# EAGLE library part DDR3-RAM (library debauer_ddr)
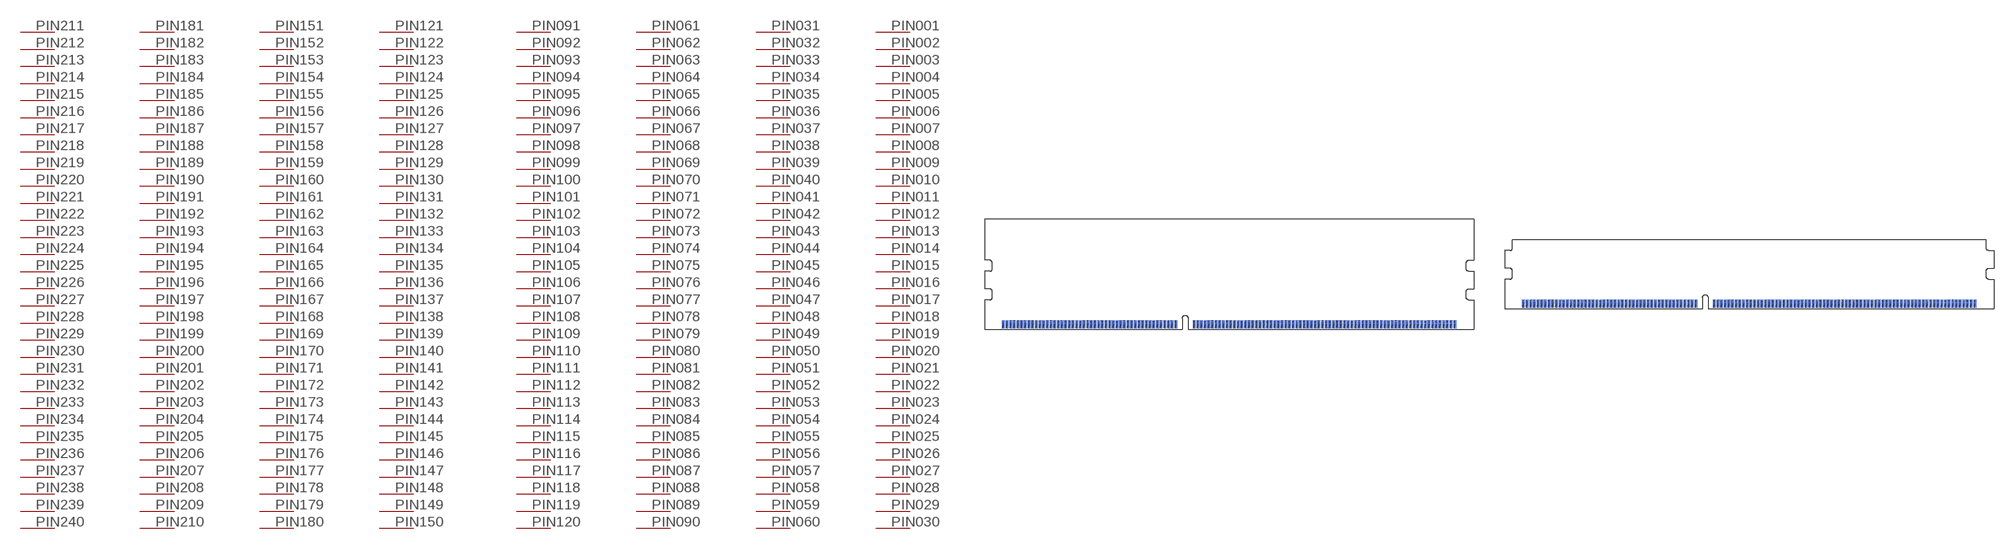
[diagram p4: symbol with the pads of 240PIN-SDRAM3-ABC; footprints 240PIN-SDRAM3-ABC, 240PIN-SDRAM3-DEF]

Designator prefix -; gates G$1=120PIN G$2=120PIN

## DDR3-RAMACB  [240PIN-SDRAM3-ABC]
PIN001  G$1:P$1
PIN002  G$1:P$2
PIN003  G$1:P$3
PIN004  G$1:P$4
PIN005  G$1:P$5
PIN006  G$1:P$6
PIN007  G$1:P$7
PIN008  G$1:P$8
PIN009  G$1:P$9
PIN010  G$1:P$10
PIN011  G$1:P$11
PIN012  G$1:P$12
PIN013  G$1:P$13
PIN014  G$1:P$14
PIN015  G$1:P$15
PIN016  G$1:P$16
PIN017  G$1:P$17
PIN018  G$1:P$18
PIN019  G$1:P$19
PIN020  G$1:P$20
PIN021  G$1:P$21
PIN022  G$1:P$22
PIN023  G$1:P$23
PIN024  G$1:P$24
PIN025  G$1:P$25
PIN026  G$1:P$26
PIN027  G$1:P$27
PIN028  G$1:P$28
PIN029  G$1:P$29
PIN030  G$1:P$30
PIN031  G$1:P$31
PIN032  G$1:P$32
PIN033  G$1:P$33
PIN034  G$1:P$34
PIN035  G$1:P$35
PIN036  G$1:P$36
PIN037  G$1:P$37
PIN038  G$1:P$38
PIN039  G$1:P$39
PIN040  G$1:P$40
PIN041  G$1:P$41
PIN042  G$1:P$42
PIN043  G$1:P$43
PIN044  G$1:P$44
PIN045  G$1:P$45
PIN046  G$1:P$46
PIN047  G$1:P$47
PIN048  G$1:P$48
PIN049  G$1:P$49
PIN050  G$1:P$50
PIN051  G$1:P$51
PIN052  G$1:P$52
PIN053  G$1:P$53
PIN054  G$1:P$54
PIN055  G$1:P$55
PIN056  G$1:P$56
PIN057  G$1:P$57
PIN058  G$1:P$58
PIN059  G$1:P$59
PIN060  G$1:P$60
PIN061  G$1:P$61
PIN062  G$1:P$62
PIN063  G$1:P$63
PIN064  G$1:P$64
PIN065  G$1:P$65
PIN066  G$1:P$66
PIN067  G$1:P$67
PIN068  G$1:P$68
PIN069  G$1:P$69
PIN070  G$1:P$70
PIN071  G$1:P$71
PIN072  G$1:P$72
PIN073  G$1:P$73
PIN074  G$1:P$74
PIN075  G$1:P$75
PIN076  G$1:P$76
PIN077  G$1:P$77
PIN078  G$1:P$78
PIN079  G$1:P$79
PIN080  G$1:P$80
PIN081  G$1:P$81
PIN082  G$1:P$82
PIN083  G$1:P$83
PIN084  G$1:P$84
PIN085  G$1:P$85
PIN086  G$1:P$86
PIN087  G$1:P$87
PIN088  G$1:P$88
PIN089  G$1:P$89
PIN090  G$1:P$90
PIN091  G$1:P$91
PIN092  G$1:P$92
PIN093  G$1:P$93
PIN094  G$1:P$94
PIN095  G$1:P$95
PIN096  G$1:P$96
PIN097  G$1:P$97
PIN098  G$1:P$98
PIN099  G$1:P$99
PIN100  G$1:P$100
PIN101  G$1:P$101
PIN102  G$1:P$102
PIN103  G$1:P$103
PIN104  G$1:P$104
PIN105  G$1:P$105
PIN106  G$1:P$106
PIN107  G$1:P$107
PIN108  G$1:P$108
PIN109  G$1:P$109
PIN110  G$1:P$110
PIN111  G$1:P$111
PIN112  G$1:P$112
PIN113  G$1:P$113
PIN114  G$1:P$114
PIN115  G$1:P$115
PIN116  G$1:P$116
PIN117  G$1:P$117
PIN118  G$1:P$118
PIN119  G$1:P$119
PIN120  G$1:P$120
PIN121  G$2:P$1
PIN122  G$2:P$2
PIN123  G$2:P$3
PIN124  G$2:P$4
PIN125  G$2:P$5
PIN126  G$2:P$6
PIN127  G$2:P$7
PIN128  G$2:P$8
PIN129  G$2:P$9
PIN130  G$2:P$10
PIN131  G$2:P$11
PIN132  G$2:P$12
PIN133  G$2:P$13
PIN134  G$2:P$14
PIN135  G$2:P$15
PIN136  G$2:P$16
PIN137  G$2:P$17
PIN138  G$2:P$18
PIN139  G$2:P$19
PIN140  G$2:P$20
PIN141  G$2:P$21
PIN142  G$2:P$22
PIN143  G$2:P$23
PIN144  G$2:P$24
PIN145  G$2:P$25
PIN146  G$2:P$26
PIN147  G$2:P$27
PIN148  G$2:P$28
PIN149  G$2:P$29
PIN150  G$2:P$30
PIN151  G$2:P$31
PIN152  G$2:P$32
PIN153  G$2:P$33
PIN154  G$2:P$34
PIN155  G$2:P$35
PIN156  G$2:P$36
PIN157  G$2:P$37
PIN158  G$2:P$38
PIN159  G$2:P$39
PIN160  G$2:P$40
PIN161  G$2:P$41
PIN162  G$2:P$42
PIN163  G$2:P$43
PIN164  G$2:P$44
PIN165  G$2:P$45
PIN166  G$2:P$46
PIN167  G$2:P$47
PIN168  G$2:P$48
PIN169  G$2:P$49
PIN170  G$2:P$50
PIN171  G$2:P$51
PIN172  G$2:P$52
PIN173  G$2:P$53
PIN174  G$2:P$54
PIN175  G$2:P$55
PIN176  G$2:P$56
PIN177  G$2:P$57
PIN178  G$2:P$58
PIN179  G$2:P$59
PIN180  G$2:P$60
PIN181  G$2:P$61
PIN182  G$2:P$62
PIN183  G$2:P$63
PIN184  G$2:P$64
PIN185  G$2:P$65
PIN186  G$2:P$66
PIN187  G$2:P$67
PIN188  G$2:P$68
PIN189  G$2:P$69
PIN190  G$2:P$70
PIN191  G$2:P$71
PIN192  G$2:P$72
PIN193  G$2:P$73
PIN194  G$2:P$74
PIN195  G$2:P$75
PIN196  G$2:P$76
PIN197  G$2:P$77
PIN198  G$2:P$78
PIN199  G$2:P$79
PIN200  G$2:P$80
PIN201  G$2:P$81
PIN202  G$2:P$82
PIN203  G$2:P$83
PIN204  G$2:P$84
PIN205  G$2:P$85
PIN206  G$2:P$86
PIN207  G$2:P$87
PIN208  G$2:P$88
PIN209  G$2:P$89
PIN210  G$2:P$90
PIN211  G$2:P$91
PIN212  G$2:P$92
PIN213  G$2:P$93
PIN214  G$2:P$94
PIN215  G$2:P$95
PIN216  G$2:P$96
PIN217  G$2:P$97
PIN218  G$2:P$98
PIN219  G$2:P$99
PIN220  G$2:P$100
PIN221  G$2:P$101
PIN222  G$2:P$102
PIN223  G$2:P$103
PIN224  G$2:P$104
PIN225  G$2:P$105
PIN226  G$2:P$106
PIN227  G$2:P$107
PIN228  G$2:P$108
PIN229  G$2:P$109
PIN230  G$2:P$110
PIN231  G$2:P$111
PIN232  G$2:P$112
PIN233  G$2:P$113
PIN234  G$2:P$114
PIN235  G$2:P$115
PIN236  G$2:P$116
PIN237  G$2:P$117
PIN238  G$2:P$118
PIN239  G$2:P$119
PIN240  G$2:P$120

## DDR3-RAMDEF  [240PIN-SDRAM3-DEF]
Pads as for 240PIN-SDRAM3-ABC

## Footprint 240PIN-SDRAM3-ABC (pad centres in mm)
DDR3 SDRAM Double Inline Memory Module 240 Pin normal Profile JEDEC MO-269d
smd 0.8 x 2.3: PIN001 -61.5,1.35; PIN002 -60.5,1.35; PIN003 -59.5,1.35; PIN004 -58.5,1.35; PIN005 -57.5,1.35; PIN006 -56.5,1.35; PIN007 -55.5,1.35; PIN008 -54.5,1.35; PIN009 -53.5,1.35; PIN010 -52.5,1.35; PIN011 -51.5,1.35; PIN012 -50.5,1.35; PIN013 -49.5,1.35; PIN014 -48.5,1.35; PIN015 -47.5,1.35; PIN016 -46.5,1.35; PIN017 -45.5,1.35; PIN018 -44.5,1.35; PIN019 -43.5,1.35; PIN020 -42.5,1.35; PIN021 -41.5,1.35; PIN022 -40.5,1.35; PIN023 -39.5,1.35; PIN024 -38.5,1.35; PIN025 -37.5,1.35; PIN026 -36.5,1.35; PIN027 -35.5,1.35; PIN028 -34.5,1.35; PIN029 -33.5,1.35; PIN030 -32.5,1.35; PIN031 -31.5,1.35; PIN032 -30.5,1.35; PIN033 -29.5,1.35; PIN034 -28.5,1.35; PIN035 -27.5,1.35; PIN036 -26.5,1.35; PIN037 -25.5,1.35; PIN038 -24.5,1.35; PIN039 -23.5,1.35; PIN040 -22.5,1.35; PIN041 -21.5,1.35; PIN042 -20.5,1.35; PIN043 -19.5,1.35; PIN044 -18.5,1.35; PIN045 -17.5,1.35; PIN046 -16.5,1.35; PIN047 -15.5,1.35; PIN048 -14.5,1.35; PIN049 -9.5,1.35; PIN050 -8.5,1.35; PIN051 -7.5,1.35; PIN052 -6.5,1.35; PIN053 -5.5,1.35; PIN054 -4.5,1.35; PIN055 -3.5,1.35; PIN056 -2.5,1.35; PIN057 -1.5,1.35; PIN058 -0.5,1.35; PIN059 0.5,1.35; PIN060 1.5,1.35; PIN061 2.5,1.35; PIN062 3.5,1.35; PIN063 4.5,1.35; PIN064 5.5,1.35; PIN065 6.5,1.35; PIN066 7.5,1.35; PIN067 8.5,1.35; PIN068 9.5,1.35; PIN069 10.5,1.35; PIN070 11.5,1.35; PIN071 12.5,1.35; PIN072 13.5,1.35; PIN073 14.5,1.35; PIN074 15.5,1.35; PIN075 16.5,1.35; PIN076 17.5,1.35; PIN077 18.5,1.35; PIN078 19.5,1.35; PIN079 20.5,1.35; PIN080 21.5,1.35; PIN081 22.5,1.35; PIN082 23.5,1.35; PIN083 24.5,1.35; PIN084 25.5,1.35; PIN085 26.5,1.35; PIN086 27.5,1.35; PIN087 28.5,1.35; PIN088 29.5,1.35; PIN089 30.5,1.35; PIN090 31.5,1.35; PIN091 32.5,1.35; PIN092 33.5,1.35; PIN093 34.5,1.35; PIN094 35.5,1.35; PIN095 36.5,1.35; PIN096 37.5,1.35; PIN097 38.5,1.35; PIN098 39.5,1.35; PIN099 40.5,1.35; PIN100 41.5,1.35; PIN101 42.5,1.35; PIN102 43.5,1.35; PIN103 44.5,1.35; PIN104 45.5,1.35; PIN105 46.5,1.35; PIN106 47.5,1.35; PIN107 48.5,1.35; PIN108 49.5,1.35; PIN109 50.5,1.35; PIN110 51.5,1.35; PIN111 52.5,1.35; PIN112 53.5,1.35; PIN113 54.5,1.35; PIN114 55.5,1.35; PIN115 56.5,1.35; PIN116 57.5,1.35; PIN117 58.5,1.35; PIN118 59.5,1.35; PIN119 60.5,1.35; PIN120 61.5,1.35
smd 0.8 x 2.3 bottom: PIN121 -61.5,1.35; PIN122 -60.5,1.35; PIN123 -59.5,1.35; PIN124 -58.5,1.35; PIN125 -57.5,1.35; PIN126 -56.5,1.35; PIN127 -55.5,1.35; PIN128 -54.5,1.35; PIN129 -53.5,1.35; PIN130 -52.5,1.35; PIN131 -51.5,1.35; PIN132 -50.5,1.35; PIN133 -49.5,1.35; PIN134 -48.5,1.35; PIN135 -47.5,1.35; PIN136 -46.5,1.35; PIN137 -45.5,1.35; PIN138 -44.5,1.35; PIN139 -43.5,1.35; PIN140 -42.5,1.35; PIN141 -41.5,1.35; PIN142 -40.5,1.35; PIN143 -39.5,1.35; PIN144 -38.5,1.35; PIN145 -37.5,1.35; PIN146 -36.5,1.35; PIN147 -35.5,1.35; PIN148 -34.5,1.35; PIN149 -33.5,1.35; PIN150 -32.5,1.35; PIN151 -31.5,1.35; PIN152 -30.5,1.35; PIN153 -29.5,1.35; PIN154 -28.5,1.35; PIN155 -27.5,1.35; PIN156 -26.5,1.35; PIN157 -25.5,1.35; PIN158 -24.5,1.35; PIN159 -23.5,1.35; PIN160 -22.5,1.35; PIN161 -21.5,1.35; PIN162 -20.5,1.35; PIN163 -19.5,1.35; PIN164 -18.5,1.35; PIN165 -17.5,1.35; PIN166 -16.5,1.35; PIN167 -15.5,1.35; PIN168 -14.5,1.35; PIN169 -9.5,1.35; PIN170 -8.5,1.35; PIN171 -7.5,1.35; PIN172 -6.5,1.35; PIN173 -5.5,1.35; PIN174 -4.5,1.35; PIN175 -3.5,1.35; PIN176 -2.5,1.35; PIN177 -1.5,1.35; PIN178 -0.5,1.35; PIN179 0.5,1.35; PIN180 1.5,1.35; PIN181 2.5,1.35; PIN182 3.5,1.35; PIN183 4.5,1.35; PIN184 5.5,1.35; PIN185 6.5,1.35; PIN186 7.5,1.35; PIN187 8.5,1.35; PIN188 9.5,1.35; PIN189 10.5,1.35; PIN190 11.5,1.35; PIN191 12.5,1.35; PIN192 13.5,1.35; PIN193 14.5,1.35; PIN194 15.5,1.35; PIN195 16.5,1.35; PIN196 17.5,1.35; PIN197 18.5,1.35; PIN198 19.5,1.35; PIN199 20.5,1.35; PIN200 21.5,1.35; PIN201 22.5,1.35; PIN202 23.5,1.35; PIN203 24.5,1.35; PIN204 25.5,1.35; PIN205 26.5,1.35; PIN206 27.5,1.35; PIN207 28.5,1.35; PIN208 29.5,1.35; PIN209 30.5,1.35; PIN210 31.5,1.35; PIN211 32.5,1.35; PIN212 33.5,1.35; PIN213 34.5,1.35; PIN214 35.5,1.35; PIN215 36.5,1.35; PIN216 37.5,1.35; PIN217 38.5,1.35; PIN218 39.5,1.35; PIN219 40.5,1.35; PIN220 41.5,1.35; PIN221 42.5,1.35; PIN222 43.5,1.35; PIN223 44.5,1.35; PIN224 45.5,1.35; PIN225 46.5,1.35; PIN226 47.5,1.35; PIN227 48.5,1.35; PIN228 49.5,1.35; PIN229 50.5,1.35; PIN230 51.5,1.35; PIN231 52.5,1.35; PIN232 53.5,1.35; PIN233 54.5,1.35; PIN234 55.5,1.35; PIN235 56.5,1.35; PIN236 57.5,1.35; PIN237 58.5,1.35; PIN238 59.5,1.35; PIN239 60.5,1.35; PIN240 61.5,1.35

## Footprint 240PIN-SDRAM3-DEF (pad centres in mm)
DDR3 SDRAM Double Inline Memory Module 240 Pin low Profile JEDEC MO-269d
smd 0.8 x 2.3: PIN001 -61.5,1.35; PIN002 -60.5,1.35; PIN003 -59.5,1.35; PIN004 -58.5,1.35; PIN005 -57.5,1.35; PIN006 -56.5,1.35; PIN007 -55.5,1.35; PIN008 -54.5,1.35; PIN009 -53.5,1.35; PIN010 -52.5,1.35; PIN011 -51.5,1.35; PIN012 -50.5,1.35; PIN013 -49.5,1.35; PIN014 -48.5,1.35; PIN015 -47.5,1.35; PIN016 -46.5,1.35; PIN017 -45.5,1.35; PIN018 -44.5,1.35; PIN019 -43.5,1.35; PIN020 -42.5,1.35; PIN021 -41.5,1.35; PIN022 -40.5,1.35; PIN023 -39.5,1.35; PIN024 -38.5,1.35; PIN025 -37.5,1.35; PIN026 -36.5,1.35; PIN027 -35.5,1.35; PIN028 -34.5,1.35; PIN029 -33.5,1.35; PIN030 -32.5,1.35; PIN031 -31.5,1.35; PIN032 -30.5,1.35; PIN033 -29.5,1.35; PIN034 -28.5,1.35; PIN035 -27.5,1.35; PIN036 -26.5,1.35; PIN037 -25.5,1.35; PIN038 -24.5,1.35; PIN039 -23.5,1.35; PIN040 -22.5,1.35; PIN041 -21.5,1.35; PIN042 -20.5,1.35; PIN043 -19.5,1.35; PIN044 -18.5,1.35; PIN045 -17.5,1.35; PIN046 -16.5,1.35; PIN047 -15.5,1.35; PIN048 -14.5,1.35; PIN049 -9.5,1.35; PIN050 -8.5,1.35; PIN051 -7.5,1.35; PIN052 -6.5,1.35; PIN053 -5.5,1.35; PIN054 -4.5,1.35; PIN055 -3.5,1.35; PIN056 -2.5,1.35; PIN057 -1.5,1.35; PIN058 -0.5,1.35; PIN059 0.5,1.35; PIN060 1.5,1.35; PIN061 2.5,1.35; PIN062 3.5,1.35; PIN063 4.5,1.35; PIN064 5.5,1.35; PIN065 6.5,1.35; PIN066 7.5,1.35; PIN067 8.5,1.35; PIN068 9.5,1.35; PIN069 10.5,1.35; PIN070 11.5,1.35; PIN071 12.5,1.35; PIN072 13.5,1.35; PIN073 14.5,1.35; PIN074 15.5,1.35; PIN075 16.5,1.35; PIN076 17.5,1.35; PIN077 18.5,1.35; PIN078 19.5,1.35; PIN079 20.5,1.35; PIN080 21.5,1.35; PIN081 22.5,1.35; PIN082 23.5,1.35; PIN083 24.5,1.35; PIN084 25.5,1.35; PIN085 26.5,1.35; PIN086 27.5,1.35; PIN087 28.5,1.35; PIN088 29.5,1.35; PIN089 30.5,1.35; PIN090 31.5,1.35; PIN091 32.5,1.35; PIN092 33.5,1.35; PIN093 34.5,1.35; PIN094 35.5,1.35; PIN095 36.5,1.35; PIN096 37.5,1.35; PIN097 38.5,1.35; PIN098 39.5,1.35; PIN099 40.5,1.35; PIN100 41.5,1.35; PIN101 42.5,1.35; PIN102 43.5,1.35; PIN103 44.5,1.35; PIN104 45.5,1.35; PIN105 46.5,1.35; PIN106 47.5,1.35; PIN107 48.5,1.35; PIN108 49.5,1.35; PIN109 50.5,1.35; PIN110 51.5,1.35; PIN111 52.5,1.35; PIN112 53.5,1.35; PIN113 54.5,1.35; PIN114 55.5,1.35; PIN115 56.5,1.35; PIN116 57.5,1.35; PIN117 58.5,1.35; PIN118 59.5,1.35; PIN119 60.5,1.35; PIN120 61.5,1.35
smd 0.8 x 2.3 bottom: PIN121 -61.5,1.35; PIN122 -60.5,1.35; PIN123 -59.5,1.35; PIN124 -58.5,1.35; PIN125 -57.5,1.35; PIN126 -56.5,1.35; PIN127 -55.5,1.35; PIN128 -54.5,1.35; PIN129 -53.5,1.35; PIN130 -52.5,1.35; PIN131 -51.5,1.35; PIN132 -50.5,1.35; PIN133 -49.5,1.35; PIN134 -48.5,1.35; PIN135 -47.5,1.35; PIN136 -46.5,1.35; PIN137 -45.5,1.35; PIN138 -44.5,1.35; PIN139 -43.5,1.35; PIN140 -42.5,1.35; PIN141 -41.5,1.35; PIN142 -40.5,1.35; PIN143 -39.5,1.35; PIN144 -38.5,1.35; PIN145 -37.5,1.35; PIN146 -36.5,1.35; PIN147 -35.5,1.35; PIN148 -34.5,1.35; PIN149 -33.5,1.35; PIN150 -32.5,1.35; PIN151 -31.5,1.35; PIN152 -30.5,1.35; PIN153 -29.5,1.35; PIN154 -28.5,1.35; PIN155 -27.5,1.35; PIN156 -26.5,1.35; PIN157 -25.5,1.35; PIN158 -24.5,1.35; PIN159 -23.5,1.35; PIN160 -22.5,1.35; PIN161 -21.5,1.35; PIN162 -20.5,1.35; PIN163 -19.5,1.35; PIN164 -18.5,1.35; PIN165 -17.5,1.35; PIN166 -16.5,1.35; PIN167 -15.5,1.35; PIN168 -14.5,1.35; PIN169 -9.5,1.35; PIN170 -8.5,1.35; PIN171 -7.5,1.35; PIN172 -6.5,1.35; PIN173 -5.5,1.35; PIN174 -4.5,1.35; PIN175 -3.5,1.35; PIN176 -2.5,1.35; PIN177 -1.5,1.35; PIN178 -0.5,1.35; PIN179 0.5,1.35; PIN180 1.5,1.35; PIN181 2.5,1.35; PIN182 3.5,1.35; PIN183 4.5,1.35; PIN184 5.5,1.35; PIN185 6.5,1.35; PIN186 7.5,1.35; PIN187 8.5,1.35; PIN188 9.5,1.35; PIN189 10.5,1.35; PIN190 11.5,1.35; PIN191 12.5,1.35; PIN192 13.5,1.35; PIN193 14.5,1.35; PIN194 15.5,1.35; PIN195 16.5,1.35; PIN196 17.5,1.35; PIN197 18.5,1.35; PIN198 19.5,1.35; PIN199 20.5,1.35; PIN200 21.5,1.35; PIN201 22.5,1.35; PIN202 23.5,1.35; PIN203 24.5,1.35; PIN204 25.5,1.35; PIN205 26.5,1.35; PIN206 27.5,1.35; PIN207 28.5,1.35; PIN208 29.5,1.35; PIN209 30.5,1.35; PIN210 31.5,1.35; PIN211 32.5,1.35; PIN212 33.5,1.35; PIN213 34.5,1.35; PIN214 35.5,1.35; PIN215 36.5,1.35; PIN216 37.5,1.35; PIN217 38.5,1.35; PIN218 39.5,1.35; PIN219 40.5,1.35; PIN220 41.5,1.35; PIN221 42.5,1.35; PIN222 43.5,1.35; PIN223 44.5,1.35; PIN224 45.5,1.35; PIN225 46.5,1.35; PIN226 47.5,1.35; PIN227 48.5,1.35; PIN228 49.5,1.35; PIN229 50.5,1.35; PIN230 51.5,1.35; PIN231 52.5,1.35; PIN232 53.5,1.35; PIN233 54.5,1.35; PIN234 55.5,1.35; PIN235 56.5,1.35; PIN236 57.5,1.35; PIN237 58.5,1.35; PIN238 59.5,1.35; PIN239 60.5,1.35; PIN240 61.5,1.35